# EAGLE library part 74AVCH1T45 (library Traficon)
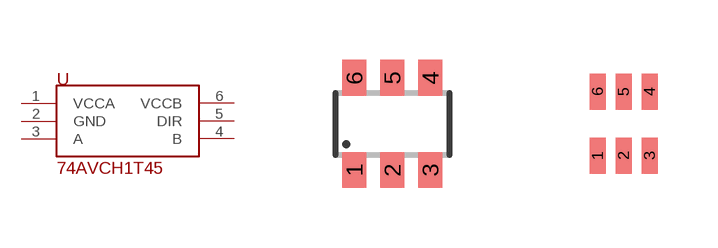
[diagram p210: symbol with the pads of SOT23-6; footprints SOT23-6, SOT353-6]

Designator prefix U

## 74AVCH1T45DBV  [SOT23-6]
1  VCCA  sup
2  GND  sup
3  A
4  B
5  DIR  in
6  VCCB  sup

## 74AVCH1T45DCK  [SOT353-6]
Pads as for SOT23-6

## Footprint SOT23-6 (pad centres in mm)
Small Outline Transistor 6 lead
smd 0.6 x 0.9: 1 -0.95,-1.15; 2 0,-1.15; 3 0.95,-1.15; 4 0.95,1.15; 5 0,1.15; 6 -0.95,1.15

## Footprint SOT353-6 (pad centres in mm)
smd 0.4 x 0.9: 1 -0.65,-0.8; 2 0,-0.8; 3 0.65,-0.8; 4 0.65,0.8; 5 0,0.8; 6 -0.65,0.8